# Altium footprint library SC.PcbLib: 2 footprints
Each footprint in its own frame and in the unit in brackets; x right, y up, seen from the top. Pads: shape width x height; smd on the part's side, far side on the other; paste and mask are expansions set on the pad; w line width, h text height; cw(c..) or ccw(c..) is an arc to the next point about the centre after c.
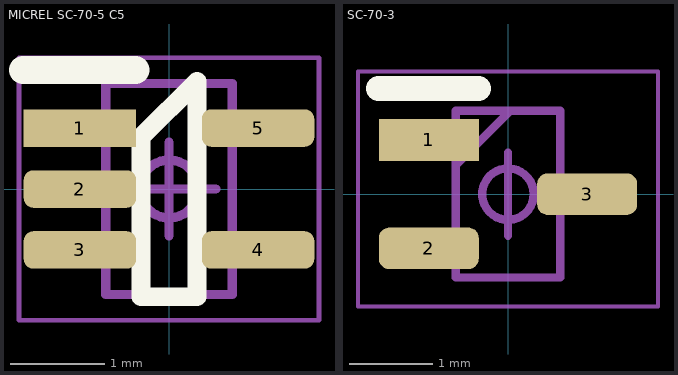
[diagram p0: the footprints below, top view; thin cyan lines are the x and y axes]

## MICREL SC-70-5 C5 [mm] "SC70, 5-Leads, Body 2.03x2.10mm, Pitch 0.65mm, IPC Medium Density"
height 1.1
pads (5):
  rect 1.2x0.4 smd: 1(-0.95,0.65)
  rrect50% 1.2x0.4 smd: 2(-0.95,0) 3(-0.95,-0.65) 4(0.95,-0.65) 5(0.95,0.65)
Top Overlay:
  lines w0.2: -0.3,-1.15 -0.3,0.55 0.3,1.15 0.3,-1.15 -0.3,-1.15
  lines w0.3: -1.556,1.27 -0.356,1.27
Top Assembly:
  lines w0.1: -0.675,-1.125 0.675,-1.125 0.675,1.125 -0.675,1.125 -0.675,-1.125
Top Component Outline:
  lines w0.05: -1.6,-1.4 -1.6,1.4 1.6,1.4 1.6,-1.4 -1.6,-1.4
Top Component Center:
  circle w0.1: c0,0 r0.309
  lines w0.1: -0.5,0 0.5,0 ; 0,-0.5 0,0.5
3D body "MICREL SC-70-5 C5.step": height 1.1, standoff 0, extent -1.2,-1.125 1.2,1.125

## SC-70-3 [mm]
pads (3):
  rect 1.2x0.5 smd: 1(-0.95,0.65)
  rrect50% 1.2x0.5 smd: 2(-0.95,-0.65) 3(0.95,0)
Top Overlay:
  lines w0.3: -1.556,1.27 -0.356,1.27
Top Assembly:
  lines w0.1: -0.625,0.35 0.025,1 ; -0.625,-1 -0.625,1 0.625,1 0.625,-1 -0.625,-1
Top Component Outline:
  lines w0.05: -1.8,-1.35 -1.8,1.473 1.8,1.473 1.8,-1.35 -1.8,-1.35
Top Component Center:
  circle w0.1: c0,0 r0.309
  lines w0.1: 0,-0.5 0,0.5
3D body "MAX809SEXR+.stp": height 1.1, standoff 0, extent -1.05,-1 1.05,1